# Altium schematic symbol library ASURT.SchLib: 10 symbols
Pins are listed as number, name and electrical type; pins without a type are passive.

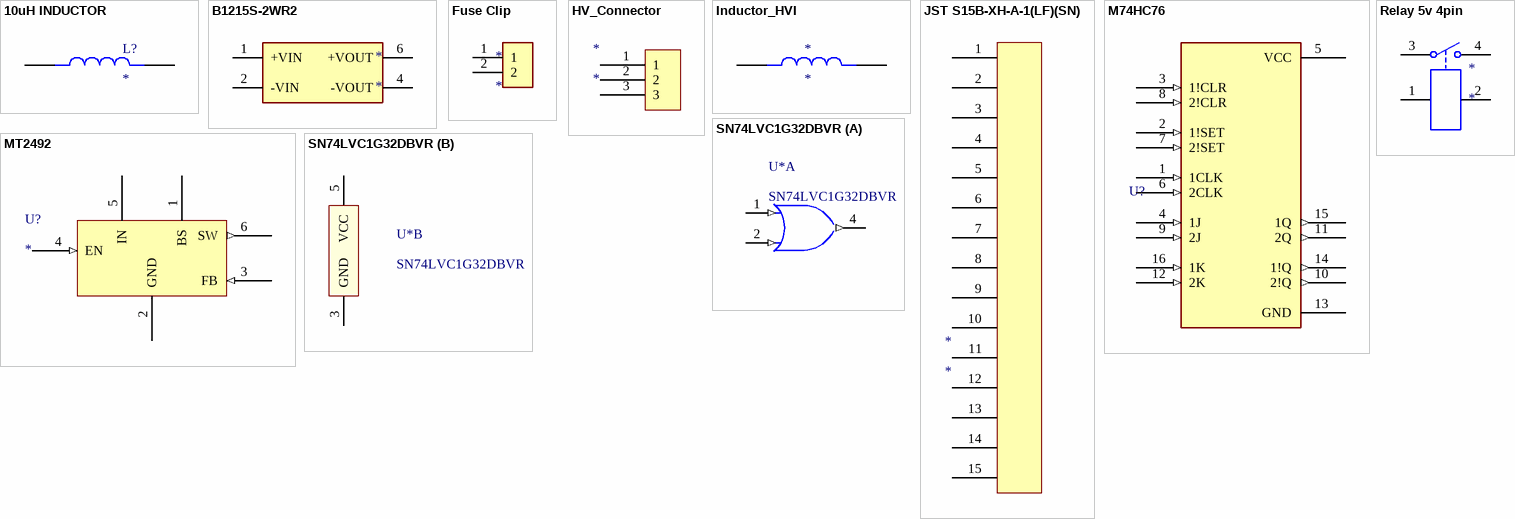
[diagram p0: symbols 10uH INDUCTOR to SN74LVC1G32DBVR]

## 10uH INDUCTOR
designator L?
footprint Inductor (Footprint not found)
pins: 1, 2

## B1215S-2WR2
designator *
footprint B1215S-2WR2 (12v to 15v isolated DC-DC converter)
pins: 1 +VIN (power), 2 -VIN (power), 4 -VOUT (power), 6 +VOUT (power)

## Fuse Clip
designator *
footprint 01220083Z  (Footprint not found)
pins: 1, 2

## HV_Connector
designator *
footprint HV Connector (1k vdc rated connector)
pins: 1 (power), 2 (power), 3 (power)

## Inductor_HVI
designator *
footprint Inductor_HVI
pins: 1, 2

## JST S15B-XH-A-1(LF)(SN)
designator *
footprint JST S15B-XH-A-1(LF)(SN)
pins: 1 (power), 2 (power), 3 (power), 4 (power), 5 (power), 6 (power), 7 (power), 8 (power), 9 (power), 10 (power), 11 (power), 12 (power), 13 (power), 14 (power), 15 (power)

## M74HC76
designator U?
dual J-K flip-flop with preset and clear
footprint PCBComponent_1
pins: 1 1CLK (in), 2 1!SET (in), 3 1!CLR (in), 4 1J (in), 5 VCC (power), 6 2CLK (in), 7 2!SET (in), 8 2!CLR (in), 9 2J (in), 10 2!Q (out), 11 2Q (out), 12 2K (in), 13 GND (power), 14 1!Q (out), 15 1Q (out), 16 1K (in)

## MT2492
designator U?
DC-DC step-down converter (buck converter)
footprint PCBComponent_1 - duplicate
pins: 1 BS (power), 2 GND (power), 3 FB (in), 4 EN (in), 5 IN (power), 6 SW (out)

## Relay 5v 4pin
designator *
footprint Relay 5v 4pin (FANHAR Power Relay FH17-1A2STL-DC5V 10A 4 Pin)
pins: 1, 2, 3, 4

## SN74LVC1G32DBVR
designator U*
footprint TI SN74LVC1G32DBVR
part A pins: 1 A (in), 2 B (in), 4 Y (out)
part B pins: 3 GND (power), 5 VCC (power)